# EAGLE library part RELAY_FRS1B (library v13)
RELAY 1 x switch, same as V23101-D6-A201, Siemens
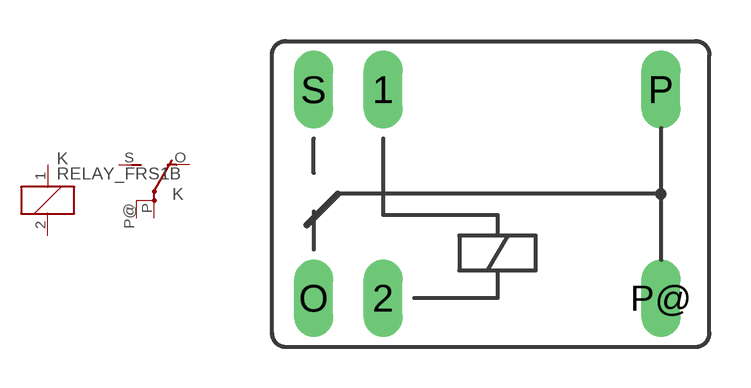
[diagram p13: symbol with the pads of RELAY_FRS1B; footprint RELAY_FRS1B]

Designator prefix K; gates 1=RELAY_K 2=RELAY_U1

## RELAY_FRS1B (OC_FARNELL: unknown; OC_NEWARK: unknown)  [RELAY_FRS1B]
1  1:1  pas
2  1:2  pas
O  2:O  pas
P  2:P  pas
P@  2:P  pas
S  2:S  pas

## Footprint RELAY_FRS1B (pad centres in mm)
RELAY 1 x switch, same as V23101-D6-A201, Siemens
drill 0.914 long: 1 0,3.81; 2 0,-3.81; O -2.54,-3.81; P 10.16,3.81; P@ 10.16,-3.81; S -2.54,3.81